# Altium footprint library dimploma.PcbLib: 50 footprints (part 2 of 4)
Each footprint in its own frame and in the unit in brackets; x right, y up, seen from the top. Pads: shape width x height; smd on the part's side, far side on the other; paste and mask are expansions set on the pad; w line width, h text height; cw(c..) or ccw(c..) is an arc to the next point about the centre after c.
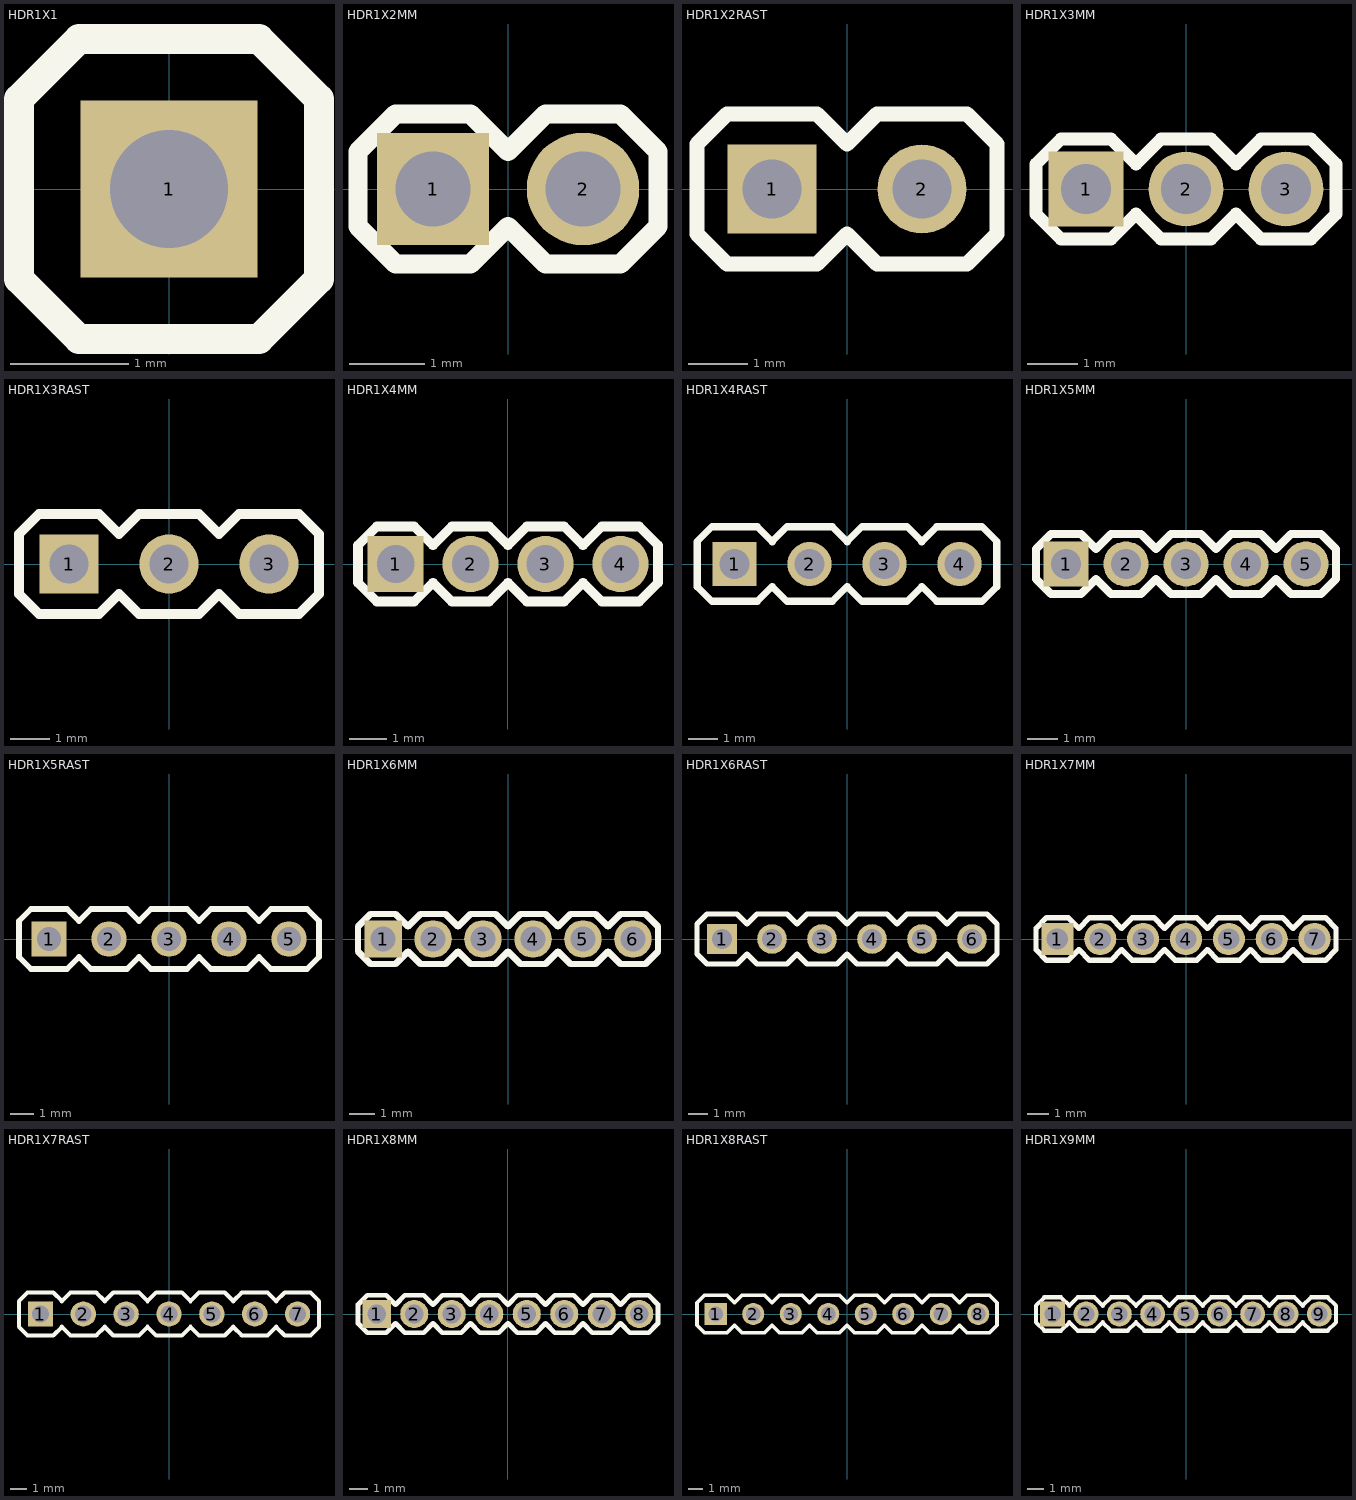
[diagram p1: the footprints below, top view; thin cyan lines are the x and y axes]

## HDR1X1 [mm]
pads (1):
  rect 1.5x1.5 hole 1: 1(0,0)
Top Overlay:
  lines w0.254: -1.27,-0.762 -1.27,0.762 -0.762,1.27 0.762,1.27 1.27,0.762 1.27,-0.762 0.762,-1.27 -0.762,-1.27 -1.27,-0.762
3D body "hdr1x1.stp": height 8.07, standoff -3.63, extent -1.27,-1.27 1.27,1.27

## HDR1X2MM [mm]
pads (2):
  rect 1.5x1.5 hole 1: 1(-1,0)
  round 1.5 hole 1: 2(1,0)
Top Overlay:
  lines w0.254: -2,-0.5 -2,0.5 -1.5,1 -0.5,1 0,0.5 0.5,1 1.5,1 2,0.5 2,-0.5 1.5,-1 0.5,-1 0,-0.5 -0.5,-1 -1.5,-1 -2,-0.5

## HDR1X2RAST [mm]
pads (2):
  rect 1.5x1.5 hole 1: 1(-1.27,0)
  round 1.5 hole 1: 2(1.27,0)
Top Overlay:
  lines w0.254: -2.54,-0.762 -2.54,0.762 -2.032,1.27 -0.508,1.27 0,0.762 0.508,1.27 2.032,1.27 2.54,0.762 2.54,-0.762 2.032,-1.27 0.508,-1.27 0,-0.762 -0.508,-1.27 -2.032,-1.27 -2.54,-0.762
3D body "hdr2x1rast.stp": height 8.07, standoff -3.63, extent -2.54,-1.27 2.54,1.27

## HDR1X3MM [mm]
pads (3):
  rect 1.5x1.5 hole 1: 1(-2,0)
  round 1.5 hole 1: 2(0,0) 3(2,0)
Top Overlay:
  lines w0.254: -3,-0.5 -2.5,-1 -1.5,-1 -1,-0.5 -0.5,-1 0.5,-1 1,-0.5 1.5,-1 2.5,-1 3,-0.5 3,0.5 2.5,1 1.5,1 1,0.5 0.5,1 -0.5,1 -1,0.5 -1.5,1 -2.5,1 -3,0.5 -3,-0.5

## HDR1X3RAST [mm]
pads (3):
  rect 1.5x1.5 hole 1: 1(-2.54,0)
  round 1.5 hole 1: 2(0,0) 3(2.54,0)
Top Overlay:
  lines w0.254: -3.81,-0.762 -3.81,0.762 -3.302,1.27 -1.778,1.27 -1.27,0.762 -0.762,1.27 0.762,1.27 1.27,0.762 1.778,1.27 3.302,1.27 3.81,0.762 3.81,-0.762 3.302,-1.27 1.778,-1.27 1.27,-0.762 0.762,-1.27 -0.762,-1.27 -1.27,-0.762 -1.778,-1.27 -3.302,-1.27 -3.81,-0.762
3D body "hdr3x1rast.stp": height 8.07, standoff -3.63, extent -3.81,-1.27 3.81,1.27

## HDR1X4MM [mm]
pads (4):
  rect 1.5x1.5 hole 1: 1(-3,0)
  round 1.5 hole 1: 2(-1,0) 3(1,0) 4(3,0)
Top Overlay:
  lines w0.254: -4,-0.5 -3.5,-1 -2.5,-1 -2,-0.5 -1.5,-1 -0.5,-1 0,-0.5 0.5,-1 1.5,-1 2,-0.5 2.5,-1 3.5,-1 4,-0.5 4,0.5 3.5,1 2.5,1 2,0.5 1.5,1 0.5,1 0,0.5 -0.5,1 -1.5,1 -2,0.5 -2.5,1 -3.5,1 -4,0.5 -4,-0.5

## HDR1X4RAST [mm]
pads (4):
  rect 1.5x1.5 hole 1: 1(-3.81,0)
  round 1.5 hole 1: 2(-1.27,0) 3(1.27,0) 4(3.81,0)
Top Overlay:
  lines w0.254: -5.08,-0.762 -4.572,-1.27 -3.048,-1.27 -2.54,-0.762 -2.032,-1.27 -0.508,-1.27 0,-0.762 0.508,-1.27 2.032,-1.27 2.54,-0.762 3.048,-1.27 4.572,-1.27 5.08,-0.762 5.08,0.762 4.572,1.27 3.048,1.27 2.54,0.762 2.032,1.27 0.508,1.27 0,0.762 -0.508,1.27 -2.032,1.27 -2.54,0.762 -3.048,1.27 -4.572,1.27 -5.08,0.762 -5.08,-0.762
3D body "hdr4x1rast.stp": height 8.07, standoff -3.63, extent -5.08,-1.27 5.08,1.27

## HDR1X5MM [mm]
pads (5):
  rect 1.5x1.5 hole 1: 1(-4,0)
  round 1.5 hole 1: 2(-2,0) 3(0,0) 4(2,0) 5(4,0)
Top Overlay:
  lines w0.254: -5,-0.5 -4.5,-1 -3.5,-1 -3,-0.5 -2.5,-1 -1.5,-1 -1,-0.5 -0.5,-1 0.5,-1 1,-0.5 1.5,-1 2.5,-1 3,-0.5 3.5,-1 4.5,-1 5,-0.5 5,0.5 4.5,1 3.5,1 3,0.5 2.5,1 1.5,1 1,0.5 0.5,1 -0.5,1 -1,0.5 -1.5,1 -2.5,1 -3,0.5 -3.5,1 -4.5,1 -5,0.5 -5,-0.5

## HDR1X5RAST [mm]
pads (5):
  rect 1.5x1.5 hole 1: 1(-5.08,0)
  round 1.5 hole 1: 2(-2.54,0) 3(0,0) 4(2.54,0) 5(5.08,0)
Top Overlay:
  lines w0.254: -6.35,-0.762 -5.842,-1.27 -4.318,-1.27 -3.81,-0.762 -3.302,-1.27 -1.778,-1.27 -1.27,-0.762 -0.762,-1.27 0.762,-1.27 1.27,-0.762 1.778,-1.27 3.302,-1.27 3.81,-0.762 4.318,-1.27 5.842,-1.27 6.35,-0.762 6.35,0.762 5.842,1.27 4.318,1.27 3.81,0.762 3.302,1.27 1.778,1.27 1.27,0.762 0.762,1.27 -0.762,1.27 -1.27,0.762 -1.778,1.27 -3.302,1.27 -3.81,0.762 -4.318,1.27 -5.842,1.27 -6.35,0.762 -6.35,-0.762
3D body "hdr5x1rast.stp": height 8.07, standoff -3.63, extent -6.35,-1.27 6.35,1.27

## HDR1X6MM [mm]
pads (6):
  rect 1.5x1.5 hole 1: 1(-5,0)
  round 1.5 hole 1: 2(-3,0) 3(-1,0) 4(1,0) 5(3,0) 6(5,0)
Top Overlay:
  lines w0.254: -6,-0.5 -6,0.5 -5.5,1 -4.5,1 -4,0.5 -3.5,1 -2.5,1 -2,0.5 -1.5,1 -0.5,1 0,0.5 0.5,1 1.5,1 2,0.5 2.5,1 3.5,1 4,0.5 4.5,1 5.5,1 6,0.5 6,-0.5 5.5,-1 4.5,-1 4,-0.5 3.5,-1 2.5,-1 2,-0.5 1.5,-1 0.5,-1 0,-0.5 -0.5,-1 -1.5,-1 -2,-0.5 -2.5,-1 -3.5,-1 -4,-0.5 -4.5,-1 -5.5,-1 -6,-0.5

## HDR1X6RAST [mm]
pads (6):
  rect 1.5x1.5 hole 1: 1(-6.35,0)
  round 1.5 hole 1: 2(-3.81,0) 3(-1.27,0) 4(1.27,0) 5(3.81,0) 6(6.35,0)
Top Overlay:
  lines w0.254: -7.62,-0.762 -7.112,-1.27 -5.588,-1.27 -5.08,-0.762 -4.572,-1.27 -3.048,-1.27 -2.54,-0.762 -2.032,-1.27 -0.508,-1.27 0,-0.762 0.508,-1.27 2.032,-1.27 2.54,-0.762 3.048,-1.27 4.572,-1.27 5.08,-0.762 5.588,-1.27 7.112,-1.27 7.62,-0.762 7.62,0.762 7.112,1.27 5.588,1.27 5.08,0.762 4.572,1.27 3.048,1.27 2.54,0.762 2.032,1.27 0.508,1.27 0,0.762 -0.508,1.27 -2.032,1.27 -2.54,0.762 -3.048,1.27 -4.572,1.27 -5.08,0.762 -5.588,1.27 -7.112,1.27 -7.62,0.762 -7.62,-0.762
3D body "hdr6x1rast.stp": height 8.07, standoff -3.63, extent -7.62,-1.27 7.62,1.27

## HDR1X7MM [mm]
pads (7):
  rect 1.5x1.5 hole 1: 1(-6,0)
  round 1.5 hole 1: 2(-4,0) 3(-2,0) 4(0,0) 5(2,0) 6(4,0) 7(6,0)
Top Overlay:
  lines w0.254: -7,-0.5 -7,0.5 -6.5,1 -5.5,1 -5,0.5 -4.5,1 -3.5,1 -3,0.5 -2.5,1 -1.5,1 -1,0.5 -0.5,1 0.5,1 1,0.5 1.5,1 2.5,1 3,0.5 3.5,1 4.5,1 5,0.5 5.5,1 6.5,1 7,0.5 7,-0.5 6.5,-1 5.5,-1 5,-0.5 4.5,-1 3.5,-1 3,-0.5 2.5,-1 1.5,-1 1,-0.5 0.5,-1 -0.5,-1 -1,-0.5 -1.5,-1 -2.5,-1 -3,-0.5 -3.5,-1 -4.5,-1 -5,-0.5 -5.5,-1 -6.5,-1 -7,-0.5

## HDR1X7RAST [mm]
pads (7):
  rect 1.5x1.5 hole 1: 1(-7.62,0)
  round 1.5 hole 1: 2(-5.08,0) 3(-2.54,0) 4(0,0) 5(2.54,0) 6(5.08,0) 7(7.62,0)
Top Overlay:
  lines w0.254: -8.89,-0.762 -8.382,-1.27 -6.858,-1.27 -6.35,-0.762 -5.842,-1.27 -4.318,-1.27 -3.81,-0.762 -3.302,-1.27 -1.778,-1.27 -1.27,-0.762 -0.762,-1.27 0.762,-1.27 1.27,-0.762 1.778,-1.27 3.302,-1.27 3.81,-0.762 4.318,-1.27 5.842,-1.27 6.35,-0.762 6.858,-1.27 8.382,-1.27 8.89,-0.762 8.89,0.762 8.382,1.27 6.858,1.27 6.35,0.762 5.842,1.27 4.318,1.27 3.81,0.762 3.302,1.27 1.778,1.27 1.27,0.762 0.762,1.27 -0.762,1.27 -1.27,0.762 -1.778,1.27 -3.302,1.27 -3.81,0.762 -4.318,1.27 -5.842,1.27 -6.35,0.762 -6.858,1.27 -8.382,1.27 -8.89,0.762 -8.89,-0.762
3D body "hdr7x1rast.stp": height 8.07, standoff -3.63, extent -8.89,-1.27 8.89,1.27

## HDR1X8MM [mm]
pads (8):
  rect 1.5x1.5 hole 1: 1(-7,0)
  round 1.5 hole 1: 2(-5,0) 3(-3,0) 4(-1,0) 5(1,0) 6(3,0) 7(5,0) 8(7,0)
Top Overlay:
  lines w0.254: -8,-0.5 -8,0.5 -7.5,1 -6.5,1 -6,0.5 -5.5,1 -4.5,1 -4,0.5 -3.5,1 -2.5,1 -2,0.5 -1.5,1 -0.5,1 0,0.5 0.5,1 1.5,1 2,0.5 2.5,1 3.5,1 4,0.5 4.5,1 5.5,1 6,0.5 6.5,1 7.5,1 8,0.5 8,-0.5 7.5,-1 6.5,-1 6,-0.5 5.5,-1 4.5,-1 4,-0.5 3.5,-1 2.5,-1 2,-0.5 1.5,-1 0.5,-1 0,-0.5 -0.5,-1 -1.5,-1 -2,-0.5 -2.5,-1 -3.5,-1 -4,-0.5 -4.5,-1 -5.5,-1 -6,-0.5 -6.5,-1 -7.5,-1 -8,-0.5

## HDR1X8RAST [mm]
pads (8):
  rect 1.5x1.5 hole 1: 1(-8.89,0)
  round 1.5 hole 1: 2(-6.35,0) 3(-3.81,0) 4(-1.27,0) 5(1.27,0) 6(3.81,0) 7(6.35,0) 8(8.89,0)
Top Overlay:
  lines w0.254: -10.16,-0.762 -10.16,0.762 -9.652,1.27 -8.128,1.27 -7.62,0.762 -7.112,1.27 -5.588,1.27 -5.08,0.762 -4.572,1.27 -3.048,1.27 -2.54,0.762 -2.032,1.27 -0.508,1.27 0,0.762 0.508,1.27 2.032,1.27 2.54,0.762 3.048,1.27 4.572,1.27 5.08,0.762 5.588,1.27 7.112,1.27 7.62,0.762 8.128,1.27 9.652,1.27 10.16,0.762 10.16,-0.762 9.652,-1.27 8.128,-1.27 7.62,-0.762 7.112,-1.27 5.588,-1.27 5.08,-0.762 4.572,-1.27 3.048,-1.27 2.54,-0.762 2.032,-1.27 0.508,-1.27 0,-0.762 -0.508,-1.27 -2.032,-1.27 -2.54,-0.762 -3.048,-1.27 -4.572,-1.27 -5.08,-0.762 -5.588,-1.27 -7.112,-1.27 -7.62,-0.762 -8.128,-1.27 -9.652,-1.27 -10.16,-0.762
3D body "hdr8x1rast.stp": height 8.07, standoff -3.63, extent -10.16,-1.27 10.16,1.27

## HDR1X9MM [mm]
pads (9):
  rect 1.5x1.5 hole 1: 1(-8,0)
  round 1.5 hole 1: 2(-6,0) 3(-4,0) 4(-2,0) 5(0,0) 6(2,0) 7(4,0) 8(6,0) 9(8,0)
Top Overlay:
  lines w0.254: -9,-0.5 -9,0.5 -8.5,1 -7.5,1 -7,0.5 -6.5,1 -5.5,1 -5,0.5 -4.5,1 -3.5,1 -3,0.5 -2.5,1 -1.5,1 -1,0.5 -0.5,1 0.5,1 1,0.5 1.5,1 2.5,1 3,0.5 3.5,1 4.5,1 5,0.5 5.5,1 6.5,1 7,0.5 7.5,1 8.5,1 9,0.5 9,-0.5 8.5,-1 7.5,-1 7,-0.5 6.5,-1 5.5,-1 5,-0.5 4.5,-1 3.5,-1 3,-0.5 2.5,-1 1.5,-1 1,-0.5 0.5,-1 -0.5,-1 -1,-0.5 -1.5,-1 -2.5,-1 -3,-0.5 -3.5,-1 -4.5,-1 -5,-0.5 -5.5,-1 -6.5,-1 -7,-0.5 -7.5,-1 -8.5,-1 -9,-0.5